# Altium schematic symbol library MCUs.SchLib: 48 symbols (part 3 of 3)
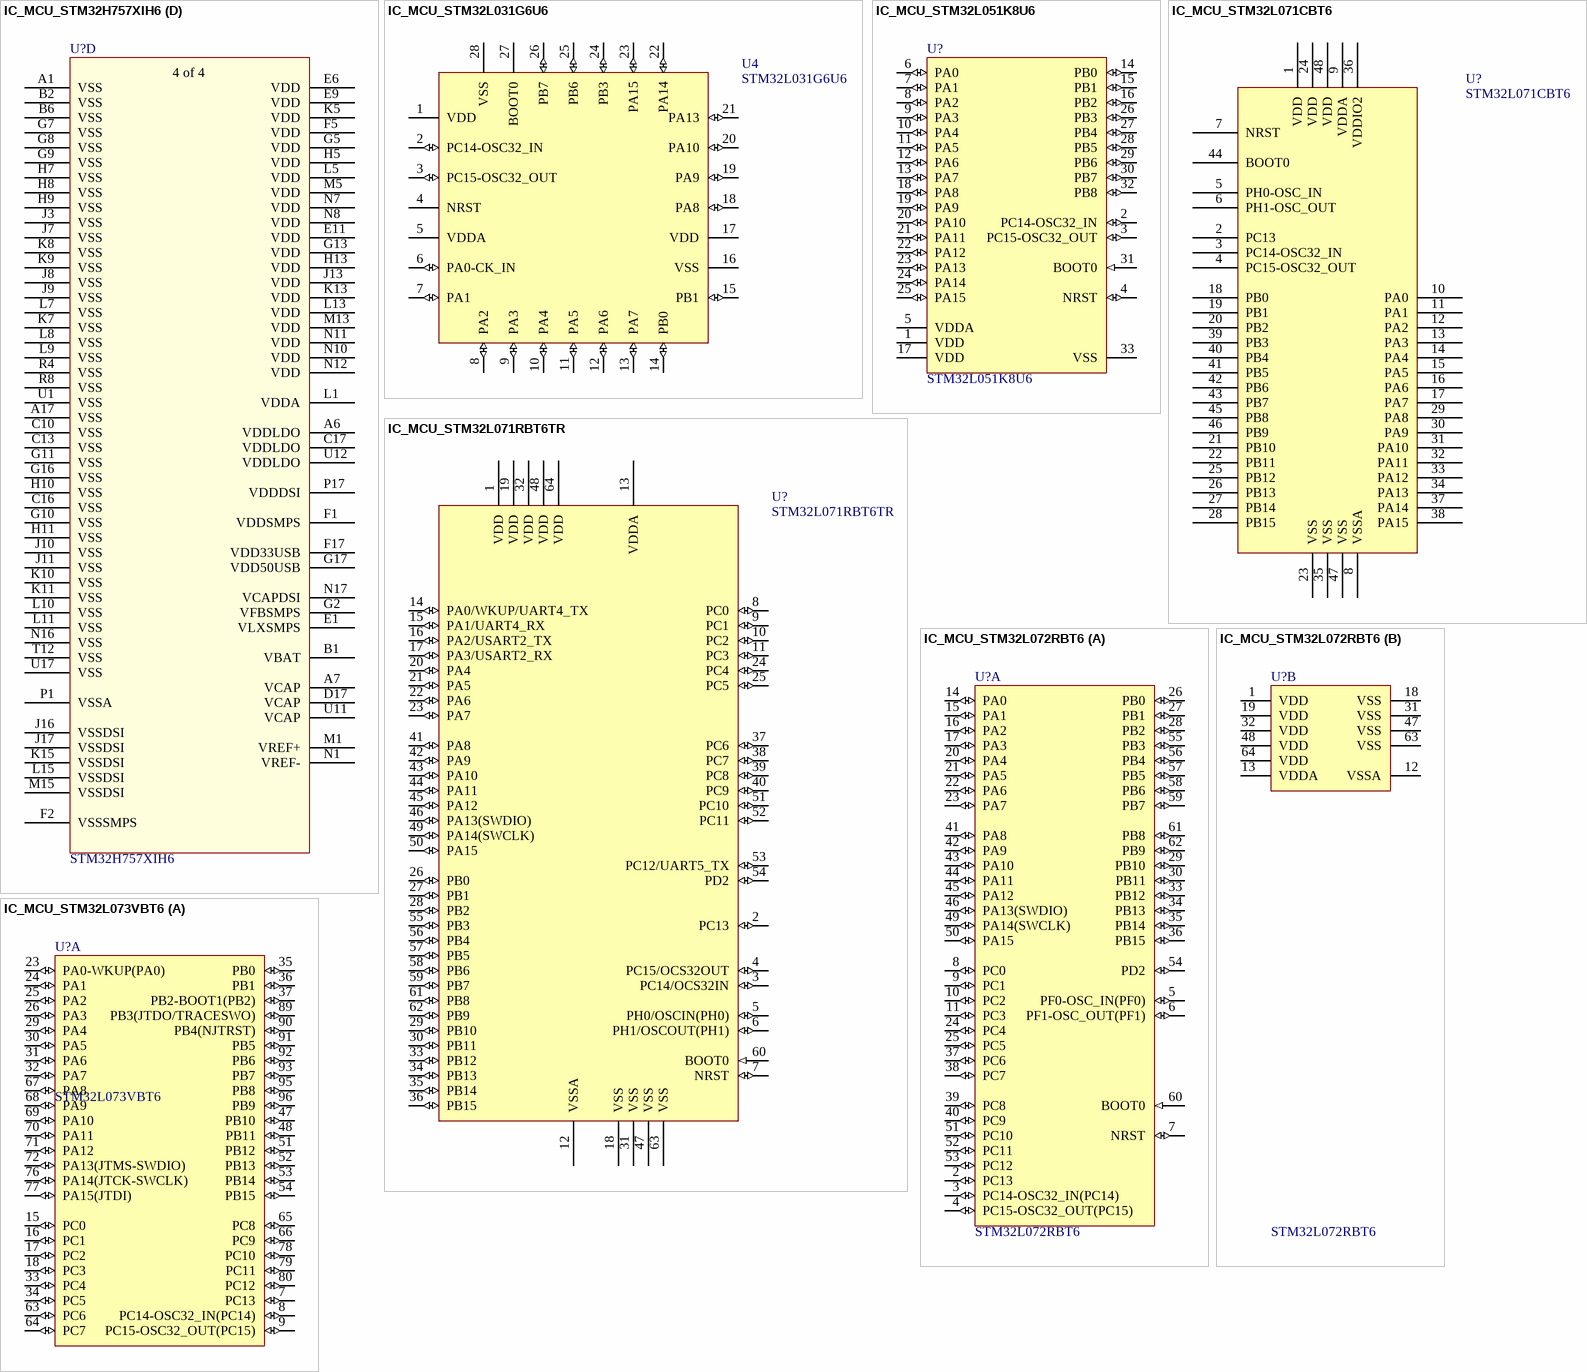
[diagram p13: symbols IC_MCU_STM32H757XIH6 to IC_MCU_STM32L073VBT6]

## IC_MCU_STM32L031G6U6
designator U4, comment STM32L031G6U6
IC MCU 32BIT 32KB FLASH 28QFPN; Manufacturer: STMicroelectronics; Supplier 1: Digi-Key; Manufacturer Part Number: STM32L031G6U6; ComponentLink1URL: http://www.st.com/content/ccc/resource/technical/document/datasheet/aa/5d/77/ad/1a/59/4a/b9/DM00140359.pdf/files/DM00140359.pdf/jcr:content/translations/en.DM00140359.pdf; ComponentLink1Description: Datasheet; Last modified by: J.Jaramillo; Last modified date: 20240310; Supplier Part Number 1: 497-17485-ND; Reel Stock: N/A; ComponentLink2Description: Digi-Key; ComponentLink2URL: https://www.digikey.com/en/products/detail/stmicroelectronics/STM32L031G6U6/6166976?s=N4IgTCBcDaICwE4DsBaAjEuAOArCgcgCIgC6AvkA
footprint UFQFN_28_4x4mm (28-UFQFN / 20190221 / H-D.Garcia)
pins: 1 VDD (power), 2 PC14-OSC32_IN (io), 3 PC15-OSC32_OUT (io), 4 NRST, 5 VDDA (power), 6 PA0-CK_IN (io), 7 PA1 (io), 8 PA2 (io), 9 PA3 (io), 10 PA4 (io), 11 PA5 (io), 12 PA6 (io), 13 PA7 (io), 14 PB0 (io), 15 PB1 (io), 16 VSS (power), 17 VDD (power), 18 PA8 (io), 19 PA9 (io), 20 PA10 (io), 21 PA13 (io), 22 PA14 (io), 23 PA15 (io), 24 PB3 (io), 25 PB6 (io), 26 PB7 (io), 27 BOOT0, 28 VSS (power)

## IC_MCU_STM32L051K8U6
designator U?, comment STM32L051K8U6
IC MCU 32BIT 64KB FLASH 32UFQFPN; Manufacturer: STMicroelectronics; Manufacturer Part Number: STM32L051K8U6; Supplier 1: Digi-Key; Supplier Part Number 1: 497-17490-ND; Reel Stock: N/A; Last modified by: J.Jaramillo; Last modified date: 20240310; ComponentLink1Description: Datasheet; ComponentLink1URL: http://www.st.com/content/ccc/resource/technical/document/datasheet/9a/75/bd/16/0f/fd/49/19/DM00108219.pdf/files/DM00108219.pdf/jcr:content/translations/en.DM00108219.pdf; ComponentLink2Description: Digi-Key; ComponentLink2URL: https://www.digikey.com/en/products/detail/stmicroelectronics/STM32L051K8U6/5051352?s=N4IgTCBcDaICwE4DsBaAjExAGFA5AIiALoC%2BQA
footprint UFQFN_32_5x5mm (32-UFQFN / 20190221 / H-D.Garcia)
pins: 1 VDD (power), 2 PC14-OSC32_IN (io), 3 PC15-OSC32_OUT (io), 4 NRST (io), 5 VDDA (power), 6 PA0 (io), 7 PA1 (io), 8 PA2 (io), 9 PA3 (io), 10 PA4 (io), 11 PA5 (io), 12 PA6 (io), 13 PA7 (io), 14 PB0 (io), 15 PB1 (io), 16 PB2 (io), 17 VDD (power), 18 PA8 (io), 19 PA9 (io), 20 PA10 (io), 21 PA11 (io), 22 PA12 (io), 23 PA13 (io), 24 PA14 (io), 25 PA15 (io), 26 PB3 (io), 27 PB4 (io), 28 PB5 (io), 29 PB6 (io), 30 PB7 (io), 31 BOOT0 (in), 32 PB8 (io), 33 VSS (power)

## IC_MCU_STM32L071CBT6
designator U?, comment STM32L071CBT6
IC MCU 32BIT 128KB FLASH 48LQFP; Manufacturer: STMicroelectronics; Manufacturer Part Number: STM32L071CBT6; Supplier 1: Digi-Key; Supplier Part Number 1: 497-17497-ND; Reel Stock: N/A; Last modified by: J.Jaramillo; Last modified date: 20240310; ComponentLink1Description: Digi-Key; ComponentLink1URL: https://www.digikey.com/en/products/detail/stmicroelectronics/STM32L071CBT6/6166982
footprint LQFP_48_7x7mm (48-LQFP / 20190221 / H-D.Garcia)
pins: 1 VDD, 2 PC13, 3 PC14-OSC32_IN, 4 PC15-OSC32_OUT, 5 PH0-OSC_IN, 6 PH1-OSC_OUT, 7 NRST, 8 VSSA, 9 VDDA, 10 PA0, 11 PA1, 12 PA2, 13 PA3, 14 PA4, 15 PA5, 16 PA6, 17 PA7, 18 PB0, 19 PB1, 20 PB2, 21 PB10, 22 PB11, 23 VSS, 24 VDD, 25 PB12, 26 PB13, 27 PB14, 28 PB15, 29 PA8, 30 PA9, 31 PA10, 32 PA11, 33 PA12, 34 PA13, 35 VSS, 36 VDDIO2, 37 PA14, 38 PA15, 39 PB3, 40 PB4, 41 PB5, 42 PB6, 43 PB7, 44 BOOT0, 45 PB8, 46 PB9, 47 VSS, 48 VDD

## IC_MCU_STM32L071RBT6TR
designator U?, comment STM32L071RBT6TR
IC MCU 32BIT 128KB FLASH 64LQFP; Manufacturer: STMicroelectronics; Manufacturer Part Number: STM32L071RBT6TR; Supplier 1: Digi-Key; Supplier Part Number 1: 497-18820-1-ND; Reel Stock: N/A; Last modified by: J.Jaramillo; Last modified date: 20240310; ComponentLink1Description: Digi-Key; ComponentLink1URL: https://www.digikey.com/en/products/detail/stmicroelectronics/STM32L071RBT6TR/6621800
footprint LQFP_64_10x10mm (64-LQFP / 20190221 / H-D.Garcia)
pins: 1 VDD, 2 PC13 (io), 3 PC14/OCS32IN (io), 4 PC15/OCS32OUT (io), 5 PH0/OSCIN(PH0) (io), 6 PH1/OSCOUT(PH1) (io), 7 NRST (io), 8 PC0 (io), 9 PC1 (io), 10 PC2 (io), 11 PC3 (io), 12 VSSA, 13 VDDA, 14 PA0/WKUP/UART4_TX (io), 15 PA1/UART4_RX (io), 16 PA2/USART2_TX (io), 17 PA3/USART2_RX (io), 18 VSS, 19 VDD, 20 PA4 (io), 21 PA5 (io), 22 PA6 (io), 23 PA7 (io), 24 PC4 (io), 25 PC5 (io), 26 PB0 (io), 27 PB1 (io) "PC1/EVENTOUT/ADC_IN11", 28 PB2 (io) "PC2/EVENTOUT/ADC_IN12", 29 PB10 (io), 30 PB11 (io), 31 VSS, 32 VDD, 33 PB12 (io), 34 PB13 (io), 35 PB14 (io), 36 PB15 (io), 37 PC6 (io), 38 PC7 (io), 39 PC8 (io), 40 PC9 (io), 41 PA8 (io), 42 PA9 (io), 43 PA10 (io), 44 PA11 (io), 45 PA12 (io), 46 PA13(SWDIO) (io), 47 VSS, 48 VDD, 49 PA14(SWCLK) (io), 50 PA15 (io), 51 PC10 (io), 52 PC11 (io), 53 PC12/UART5_TX (io), 54 PD2 (io), 55 PB3 (io), 56 PB4 (io), 57 PB5 (io), 58 PB6 (io), 59 PB7 (io), 60 BOOT0 (in), 61 PB8 (io), 62 PB9 (io), 63 VSS, 64 VDD

## IC_MCU_STM32L072RBT6
designator U?, comment STM32L072RBT6
IC MCU 32BIT 64KB FLASH 64LQFP; Manufacturer: STMicroelectronics; Reel Stock: N/A; Last modified by: J.Jaramillo; Last modified date: 20240310; ComponentLink1Description: Digi-key; ComponentLink1URL: https://www.digikey.com/products/en?keywords=497-17504-ND; Supplier 1: Digi-Key; Manufacturer Part Number: STM32L072RBT6; Supplier Part Number 1: 497-17504-ND
footprint LQFP_64_10x10mm (64-LQFP / 20190221 / H-D.Garcia)
part A pins: 2 PC13 (io), 3 PC14-OSC32_IN(PC14) (io), 4 PC15-OSC32_OUT(PC15) (io), 5 PF0-OSC_IN(PF0) (io), 6 PF1-OSC_OUT(PF1) (io), 7 NRST (io) "Device reset input / internal reset output (active low)", 8 PC0 (io) "PC0/EVENTOUT/ADC_IN10", 9 PC1 (io) "PC1/EVENTOUT/ADC_IN11", 10 PC2 (io) "PC2/EVENTOUT/ADC_IN12", 11 PC3 (io) "PC3/EVENTOUT/ADC_IN13", 14 PA0 (io) "PA0/USART2_CTS/ADC_IN0,RTC_TAMP2,WKUP1", 15 PA1 (io) "PA1/USART2_RTS,EVENTOUT/ADC_IN1", 16 PA2 (io) "PA2/USART2_TX,TIM15_CH1/ADC_IN2", 17 PA3 (io) "PA3/USART2_RX,TIM15_CH2/ADC_IN3", 20 PA4 (io) "PA4/SPI1_NSS,USART2_CK,TIM14_CH1/ADC_IN4", 21 PA5 (io) "PA5/SPI1_SCK/ADC_IN5", 22 PA6 (io) "PA6/SPI1_MISO,TIM3_CH1,TIM1_BKIN,TIM16_CH1,EVENTOUT/ADC_IN6", 23 PA7 (io) "PA7/SPI1_MOSI,TIM3_CH2,TIM14_CH1,TIM1_CH1N,TIM17_CH1,EVENTOUT/ADC_IN7", 24 PC4 (io) "PC4/EVENTOUT/ADC_IN14", 25 PC5 (io) "PC5/ADC_IN15", 26 PB0 (io) "PB0/TIM3_CH3,TIM1_CH2N,EVENTOUT/ADC_IN8", 27 PB1 (io) "PB1/TIM3_CH4,TIM14_CH1,TIM1_CH3N/ADC_IN9", 28 PB2 (io), 29 PB10 (io) "PB10/I2C2_SCL", 30 PB11 (io) "PB11/I2C2_SDA,EVENTOUT", 33 PB12 (io) "PB12/SPI2_NSS,TIM1_BKIN,EVENTOUT", 34 PB13 (io) "PB13/SPI2_SCK,TIM1_CH1N", 35 PB14 (io) "PB14/SPI2_MISO,TIM1_CH2N,TIM15_CH1", 36 PB15 (io) "PB15/SPI2_MOSI,TIM1_CH3N,TIM15_CH1N,TIM15_CH2/RTC_REFIN", 37 PC6 (io) "PC6/TIM3_CH1", 38 PC7 (io) "PC7/TIM3_CH2", 39 PC8 (io) "PC8/TIM3_CH3", 40 PC9 (io) "PC9/TIM3_CH4", 41 PA8 (io) "PA8/USART1_CK,TIM1_CH1,EVENTOUT,MCO", 42 PA9 (io) "PA9/USART1_TX,TIM1_CH2,TIM15_BKIN", 43 PA10 (io) "PA10/USART1_RX,TIM1_CH3,TIM17_BKIN", 44 PA11 (io) "PA11/USART1_CTS,TIM1_CH4,EVENTOUT", 45 PA12 (io) "PA12/USART1_RTS,TIM1_ETR,EVENTOUT", 46 PA13(SWDIO) (io) "PA13(SWDIO)/IR_OUT,SWDIO", 49 PA14(SWCLK) (io) "PA14(SWCLK)/USART2_TX,SWCLK", 50 PA15 (io) "PA15/SPI1_NSS,USART2_RX,EVENTOUT", 51 PC10 (io), 52 PC11 (io), 53 PC12 (io), 54 PD2 (io) "PD2/TIM3_ETR", 55 PB3 (io) "PB3/SPI1_SCK,EVENTOUT", 56 PB4 (io) "PB4/SPI1_MISO,TIM3_CH1,EVENTOUT", 57 PB5 (io) "PB5/SPI1_MOSI,I2C1_SMBA,TIM16_BKIN,TIM3_CH2", 58 PB6 (io) "PB6/I2C1_SCL,USART1_TX,TIM16_CH1N", 59 PB7 (io) "PB7/I2C1_SDA,USART1_RX,TIM17_CH1N", 60 BOOT0 (in) "Boot memory selection", 61 PB8 (io) "PB8/I2C1_SCL,TIM16_CH1", 62 PB9 (io) "PB9/I2C1_SDA,IR_OUT,TIM17_CH1,EVENTOUT"
part B pins: 1 VDD (power), 12 VSSA (power), 13 VDDA (power), 18 VSS (power), 19 VDD (power), 31 VSS (power), 32 VDD (power), 47 VSS (power), 48 VDD (power), 63 VSS (power), 64 VDD (power)

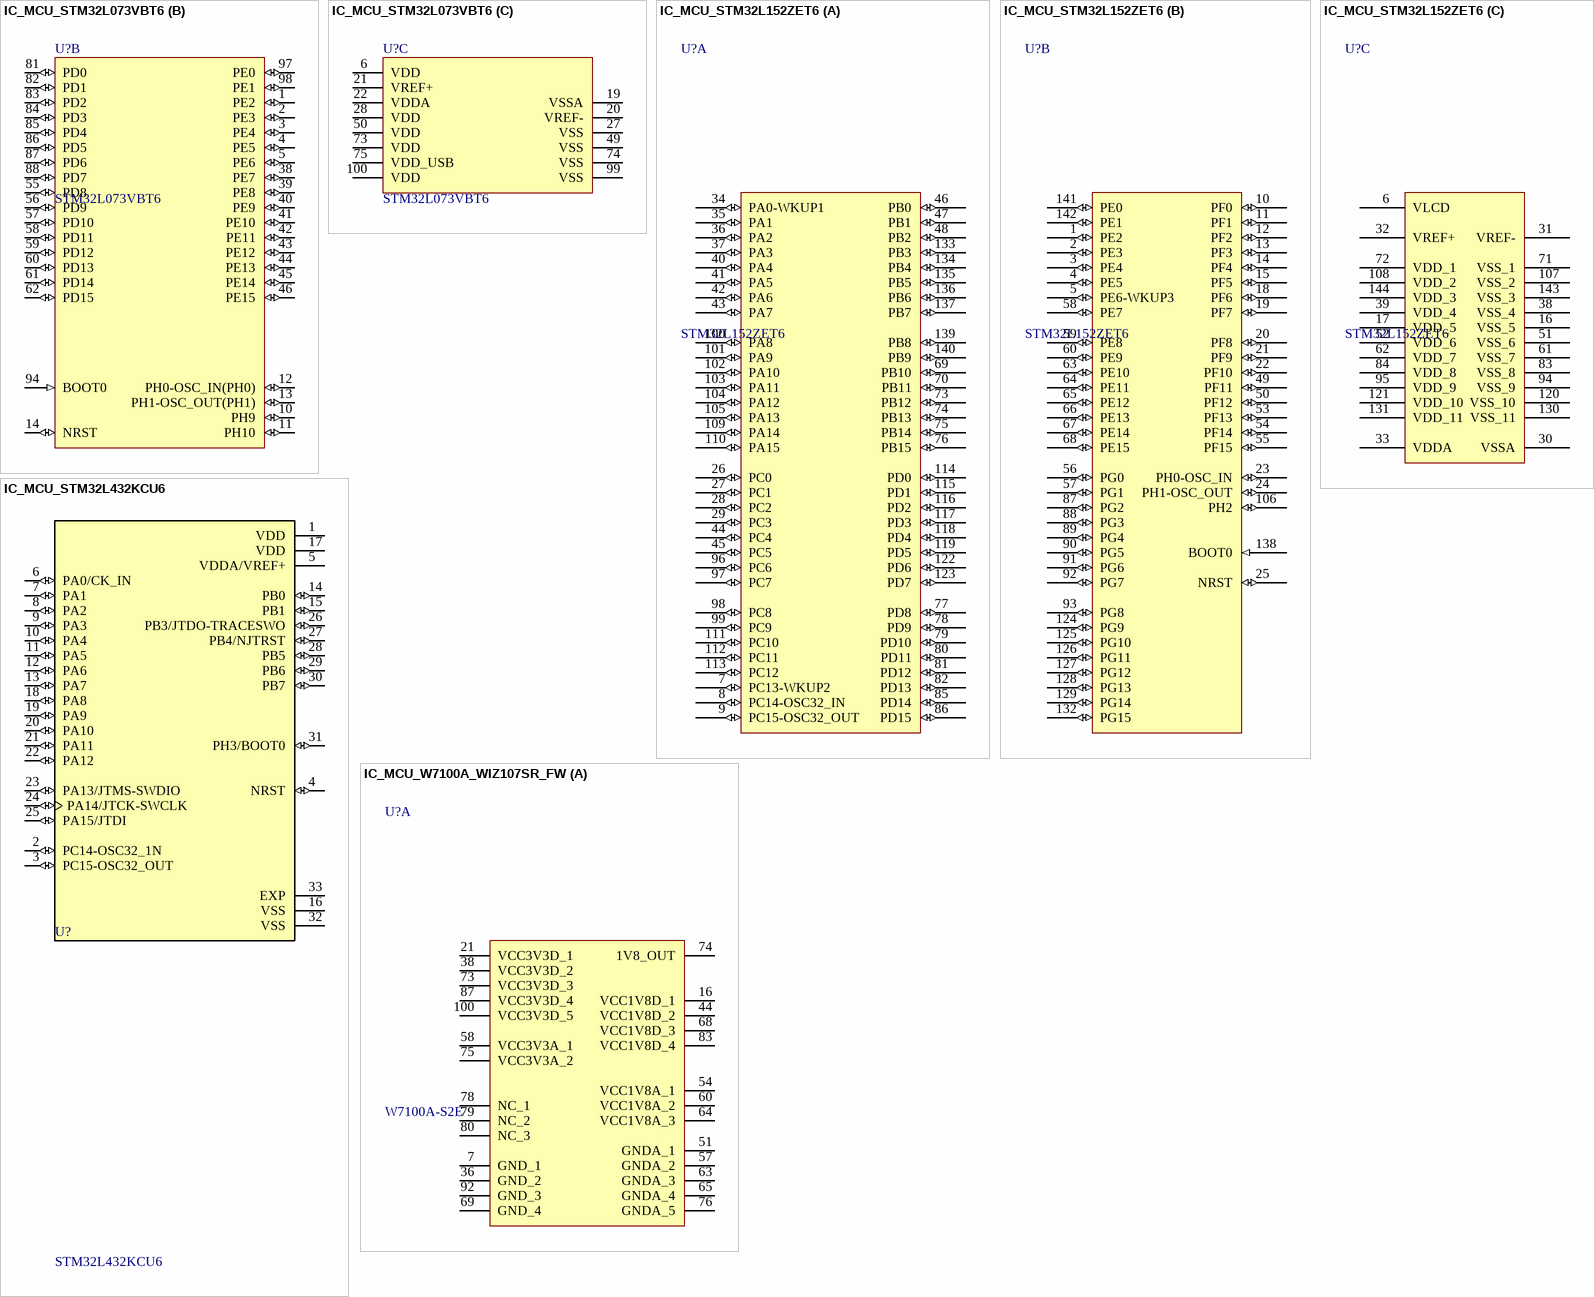
[diagram p10: symbols IC_MCU_STM32L073VBT6 to IC_MCU_W7100A_WIZ107SR_FW]

## IC_MCU_STM32L073VBT6
designator U?, comment STM32L073VBT6
IC MCU 32BIT 128KB FLASH 100LQFP; Manufacturer: STMicroelectronics; Reel Stock: N/A; Last modified by: J.Jaramillo; Last modified date: 20240310; ComponentLink1Description: Datasheet; ComponentLink1URL: https://www.digikey.tw/products/en?keywords=497-17507-ND; Supplier 1: Digi-Key; Manufacturer Part Number: STM32L073VBT6; Supplier Part Number 1: 497-17507-ND
footprint LQFP_100_14x14mm (100-LQFP / 20190221 / H-D.Garcia)
part A pins: 7 PC13 (io) "PC13/EVENTOUT/TAMP_1", 8 PC14-OSC32_IN(PC14) (io) "PC14-OSC32_IN(PC14)/EVENTOUT/OSC32_IN", 9 PC15-OSC32_OUT(PC15) (io) "PC15-OSC32_OUT(PC15)/EVENTOUT/OSC32_OUT", 15 PC0 (io) "PC0/OTG_HS_ULPI_STP,FMC_SDNWE,EVENTOUT/ADC123_IN10", 16 PC1 (io) "PC1/ETH_MDC,EVENTOUT/ADC123_IN11", 17 PC2 (io) "PC2/SPI2_MISO,I2S2EXT_SD,OTG_HS_ULPI_DIR,ETH_MII_TXD2,FMC_SDNE0,EVENTOUT/ADC123_IN12", 18 PC3 (io) "PC3/SPI2_MOSI/I2S2_SD,OTG_HS_ULPI_NXT,ETH_MII_TX_CLK,FMC_SDCKE0,EVENTOUT/ADC123_IN13", 23 PA0-WKUP(PA0) (io) "PA0-WKUP(PA0)/TIM2_CH1/TIM2_ETR,TIM5_CH1,TIM8_ETR,USART2_CTS,UART4_TX,ETH_MII_CRS,EVENTOUT/ADC123_IN0/WKUP", 24 PA1 (io) "PA1/TIM2_CH2,TIM5_CH2,USART2_RTS,UART4_RX,ETH_MII_RX_CLK/ETH_RMII_REF_CLK,EVENTOUT/ADC123_IN1", 25 PA2 (io) "PA2/TIM2_CH3,TIM5_CH3,TIM9_CH1,USART2_TX,ETH_MDIO,EVENTOUT/ADC123_IN2", 26 PA3 (io) "PA3/TIM2_CH4,TIM5_CH4,TIM9_CH2,USART2_RX,OTG_HS_ULPI_D0,ETH_MII_COL,LCD_B5,EVENTOUT/ADC123_IN3", 29 PA4 (io) "PA4/SPI1_NSS,SPI3_NSS/I2S3_WS,USART2_CK,OTG_HS_SOF,DCMI_HSYNC,LCD_VSYNC,EVENTOUT/ADC12_IN4/DAC_OUT1", 30 PA5 (io) "PA5/TIM2_CH1/TIM2_ETR,TIM8_CH1N,SPI1_SCK,OTG_HS_ULPI_CK,EVENTOUT/ADC12_IN5/DAC_OUT2", 31 PA6 (io) "PA6/TIM1_BKIN,TIM3_CH1,TIM8_BKIN,SPI1_MISO,TIM13_CH1,DCMI_PIXCLK,LCD_G2,EVENTOUT/ADC12_IN6", 32 PA7 (io) "PA7/TIM1_CH1N,TIM3_CH2,TIM8_CH1N,SPI1_MOSI,TIM14_CH1,ETH_MII_RX_DV/ETH_RMII_CRS_DV,EVENTOUT/ADC12_IN7", 33 PC4 (io) "PC4/ETH_MII_RXD0/ETH_RMII_RXD0,EVENTOUT/ADC12_IN14", 34 PC5 (io) "PC5/ETH_MII_RXD1/ETH_RMII_RXD1,EVENTOUT/ADC12_IN15", 35 PB0 (io) "PB0/TIM1_CH2N,TIM3_CH3,TIM8_CH2N,LCD_R3,OTG_HS_ULPI_D1,ETH_MII_RXD2,EVENTOUT/ADC12_IN8", 36 PB1 (io) "PB1/TIM1_CH3N,TIM3_CH4,TIM8_CH3N,LCD_R6,OTG_HS_ULPI_D2,ETH_MII_RXD3,EVENTOUT/ADC12_IN9", 37 PB2-BOOT1(PB2) (io) "PB2-BOOT1(PB2)/EVENTOUT", 47 PB10 (io) "PB10/TIM2_CH3,I2C2_SCL,SPI2_SCK/I2S2_CK,USART3_TX,OTG_HS_ULPI_D3,ETH_MII_RX_ER,LCD_G4,EVENTOUT", 48 PB11 (io) "PB11/TIM2_CH4,I2C2_SDA,USART3_RX,OTG_HS_ULPI_D4,ETH_MII_TX_EN/ETH_RMII_TX_EN,LCD_G5,EVENTOUT", 51 PB12 (io) "PB12/TIM1_BKIN,I2C2_SMBA,SPI2_NSS/I2S2_WS,USART3_CK,CAN2_RX,OTG_HS_ULPI_D5,ETH_MII_TXD0/ETH_RMII_TXD0,OTG_HS_ID,EVENTOUT", 52 PB13 (io) "PB13/TIM1_CH1N,SPI2_SCK/I2S2_CK,USART3_CTS,CAN2_TX,OTG_HS_ULPI_D6,ETH_MII_TXD1/ETH_RMII_TXD1,EVENTOUTOTG_HS_VBUS", 53 PB14 (io) "PB14/TIM1_CH2N,TIM8_CH2N,SPI2_MISO,I2S2EXT_SD,USART3_RTS,TIM12_CH1,OTG_HS_DM,EVENTOUT", 54 PB15 (io) "PB15/RTC_REFIN,TIM1_CH3N,TIM8_CH3N,SPI2_MOSI/I2S2_SD,TIM12_CH2,OTG_HS_DP,EVENTOUT", 63 PC6 (io) "PC6/TIM3_CH1,TIM8_CH1,I2S2_MCK,USART6_TX,SDIO_D6,DCMI_D0,LCD_HSYNC,EVENTOUT", 64 PC7 (io) "PC7/TIM3_CH2,TIM8_CH2,I2S3_MCK,USART6_RX,SDIO_D7,DCMI_D1,LCD_G6,EVENTOUT", 65 PC8 (io) "PC8/TIM3_CH3,TIM8_CH3,USART6_CK,SDIO_D0,DCMI_D2,EVENTOUT", 66 PC9 (io) "PC9/MCO2,TIM3_CH4,TIM8_CH4,I2C3_SDA,I2S_CKIN,SDIO_D1,DCMI_D3,EVENTOUT", 67 PA8 (io) "PA8/MCO1,TIM1_CH1,I2C3_SCL,USART1_CK,OTG_FS_SOF,LCD_R6,EVENTOUT", 68 PA9 (io) "PA9/TIM1_CH2,I2C3_SMBA,USART1_TX,DCMI_D0,EVENTOUT/OTG_FS_VBUS", 69 PA10 (io) "PA10/TIM1_CH3,USART1_RX,OTG_FS_ID,DCMI_D1,EVENTOUT", 70 PA11 (io) "PA11/TIM1_CH4,USART1_CTS,CAN1_RX,LCD_R4,OTG_FS_DM,EVENTOUT", 71 PA12 (io) "PA12/TIM1_ETR,USART1_RTS,CAN1_TX,LCD_R5,OTG_FS_DP,EVENTOUT", 72 PA13(JTMS-SWDIO) (io) "PA13(JTMS-SWDIO)/JTMS-SWDIO,EVENTOUT", 76 PA14(JTCK-SWCLK) (io) "PA14(JTCK-SWCLK)/JTCK-SWCLK/EVENTOUT", 77 PA15(JTDI) (io) "PA15(JTDI)/JTDI,TIM2_CH1/TIM2_ETR,SPI1_NSS,SPI3_NSS/I2S3_WS,EVENTOUT", 78 PC10 (io) "PC10/SPI3_SCK/I2S3_CK,USART3_TX,UART4_TX,SDIO_D2,DCMI_D8,LCD_R2,EVENTOUT", 79 PC11 (io) "PC11/I2S3EXT_SD,SPI3_MISO,USART3_RX,UART4_RX,SDIO_D3,DCMI_D4,EVENTOUT", 80 PC12 (io) "PC12/SPI3_MOSI/I2S3_SD,USART3_CK,UART5_TX,SDIO_CK,DCMI_D9,EVENTOUT", 89 PB3(JTDO/TRACESWO) (io) "PB3(JTDO/TRACESWO)/JTDO/TRACESWO,TIM2_CH2,SPI1_SCK,SPI3_SCK/I2S3_CK,EVENTOUT", 90 PB4(NJTRST) (io) "PB4(NJTRST)/NJTRST,TIM3_CH1,SPI1_MISO,SPI3_MISO,I2S3EXT_SD,EVENTOUT", 91 PB5 (io) "PB5/TIM3_CH2,I2C1_SMBA,SPI1_MOSI,SPI3_MOSI/I2S3_SD,CAN2_RX,OTG_HS_ULPI_D7,ETH_PPS_OUT,FMC_SDCKE1,DCMI_D10,EVENTOUT", 92 PB6 (io) "PB6/TIM4_CH1,I2C1_SCL,USART1_TX,CAN2_TX,FMC_SDNE1,DCMI_D5,EVENTOUT", 93 PB7 (io) "PB7/TIM4_CH2,I2C1_SDA,USART1_RX,FMC_NL,DCMI_VSYNC,EVENTOUT", 95 PB8 (io) "PB8/TIM4_CH3,TIM10_CH1,I2C1_SCL,CAN1_RX,ETH_MII_TXD3,SDIO_D4,DCMI_D6,LCD_B6,EVENTOUT", 96 PB9 (io) "PB9/TIM4_CH4,TIM11_CH1,I2C1_SDA,SPI2_NSS/I2S2_WS,CAN1_TX,SDIO_D5,DCMI_D7,LCD_B7,EVENTOUT"
part B pins: 1 PE2 (io) "PE2/TRACECLK,SPI4_SCK,SAI1_MCLK_A,ETH_MII_TXD3,FMC_A23,EVENTOUT", 2 PE3 (io) "PE3/TRACED0,SAI1_SD_B,FMC_A19,EVENTOUT", 3 PE4 (io) "PE4/TRACED1,SPI4_NSS,SAI1_FS_A,FMC_A20,DCMI_D4,LCD_B0,EVENTOUT", 4 PE5 (io) "PE5/TRACED2,TIM9_CH1,SPI4_MISO,SAI1_SCK_A,FMC_A21,DCMI_D6,LCD_G0,EVENTOUT", 5 PE6 (io) "PE6/TRACED3,TIM9_CH2,SPI4_MOSI,SAI1_SD_A,FMC_A22,DCMI_D7,LCD_G1,EVENTOUT", 10 PH9 (io) "VSS", 11 PH10 (io) "VDD", 12 PH0-OSC_IN(PH0) (io) "PH0-OSC_IN(PH0)/EVENTOUT/OSC_IN", 13 PH1-OSC_OUT(PH1) (io) "PH1-OSC_OUT(PH1)/EVENTOUT/OSC_OUT", 14 NRST (io), 38 PE7 (io) "PE7/TIM1_ETR,UART7_RX,FMC_D4,EVENTOUT", 39 PE8 (io) "PE8/TIM1_CH1N,UART7_TX,FMC_D5,EVENTOUT", 40 PE9 (io) "PE9/TIM1_CH1,FMC_D6,EVENTOUT", 41 PE10 (io) "PE10/TIM1_CH2N,FMC_D7,EVENTOUT", 42 PE11 (io) "PE11/TIM1_CH2,SPI4_NSS,FMC_D8,LCD_G3,EVENTOUT", 43 PE12 (io) "PE12/TIM1_CH3N,SPI4_SCK,FMC_D9,LCD_B4,EVENTOUT", 44 PE13 (io) "PE13/TIM1_CH3,SPI4_MISO,FMC_D10,LCD_DE,EVENTOUT", 45 PE14 (io) "PE14/TIM1_CH4,SPI4_MOSI,FMC_D11,LCD_CLK,EVENTOUT", 46 PE15 (io) "PE15/TIM1_BKIN,FMC_D12,LCD_R7,EVENTOUT", 55 PD8 (io) "PD8/USART3_TX,FMC_D13,EVENTOUT", 56 PD9 (io) "PD9/USART3_RX,FMC_D14,EVENTOUT", 57 PD10 (io) "PD10/USART3_CK,FMC_D15,LCD_B3,EVENTOUT", 58 PD11 (io) "PD11/USART3_CTS,FMC_A16,EVENTOUT", 59 PD12 (io) "PD12/TIM4_CH1,USART3_RTS,FMC_A17,EVENTOUT", 60 PD13 (io) "PD13/TIM4_CH2,FMC_A18,EVENTOUT", 61 PD14 (io) "PD14/TIM4_CH3,FMC_D0,EVENTOUT", 62 PD15 (io) "PD15/TIM4_CH4,FMC_D1,EVENTOUT", 81 PD0 (io) "PD0/CAN1_RX,FMC_D2,EVENTOUT", 82 PD1 (io) "PD1/CAN1_TX,FMC_D3,EVENTOUT", 83 PD2 (io) "PD2/TIM3_ETR,UART5_RX,SDIO_CMD,DCMI_D11,EVENTOUT", 84 PD3 (io) "PD3/SPI2_SCK/I2S2_CK,USART2_CTS,FMC_CLK,DCMI_D5,LCD_G7,EVENTOUT", 85 PD4 (io) "PD4/USART2_RTS,FMC_NOE,EVENTOUT", 86 PD5 (io) "PD5/USART2_TX,FMC_NWE,EVENTOUT", 87 PD6 (io) "PD6/SPI3_MOSI/I2S3_SD,SAI1_SD_A,USART2_RX,FMC_NWAIT,DCMI_D10,LCD_B2,EVENTOUT", 88 PD7 (io) "PD7/USART2_CK,FMC_NE1/FMC_NCE2,EVENTOUT", 94 BOOT0 (in) "BOOT0/VPP", 97 PE0 (io) "PE0/TIM4_ETR,UART8_RX,FMC_NBL0,DCMI_D2,EVENTOUT", 98 PE1 (io) "PE1/UART8_TX,FMC_NBL1,DCMI_D3,EVENTOUT"
part C pins: 6 VDD (power) "VBAT", 19 VSSA (power) "VDD", 20 VREF- (power) "VSSA", 21 VREF+ (power), 22 VDDA (power), 27 VSS (power), 28 VDD (power), 49 VSS (power) "VCAP_1", 50 VDD (power), 73 VDD (power) "VCAP_2", 74 VSS (power), 75 VDD_USB (power) "VDD", 99 VSS (power), 100 VDD (power)

## IC_MCU_STM32L152ZET6
designator U?, comment STM32L152ZET6
IC MCU 32BIT 512KB FLASH 144LQFP; Manufacturer: STMicroelectronics; Manufacturer Part Number: STM32L152ZET6; Supplier 1: Digi-Key; Supplier Part Number 1: 497-15831-ND; Reel Stock: N/A; Last modified by: J.Jaramillo; Last modified date: 20240310; ComponentLink1Description: New link
footprint LQFP_144_20X20MM_M (/20210906/V-A.Patino)
part A pins: 7 PC13-WKUP2 (io) "PC13-WKUP2/PC13/WKUP2/RTC_TAMP1/RTC_TS/RTC_OUT", 8 PC14-OSC32_IN (io) "PC14-OSC32_IN/PC14/OSC32_IN", 9 PC15-OSC32_OUT (io) "PC15-OSC32_OUT/PC15/OSC32_OUT", 26 PC0 (io) "PC0/LCD_SEG18/ADC_IN10/COMP1_INP", 27 PC1 (io) "PC1/LCD_SEG19/ADC_IN11/COMP1_INP", 28 PC2 (io) "PC2/LCD_SEG20/ADC_IN12/COMP1_INP", 29 PC3 (io) "PC3/LCD_SEG21/ADC_IN13/COMP1_INP", 34 PA0-WKUP1 (io) "PA0-WKUP1/PA0/WKUP1/RTC_TAMP2/TIM2_CH1_ETR/TIM5_CH1/USART2_CTS/ADC_IN0/COMP1_INP", 35 PA1 (io) "PA1/TIM2_CH2/TIM5_CH2/USART2_RTS/LCD_SEG0/ADC_IN1/COMP1_INP/OPAMP1_VINP", 36 PA2 (io) "PA2/TIM2_CH3/TIM5_CH3/TIM9_CH1/USART2_TX/LCD_SEG1/ADC_IN2/COMP1_INP/OPAMP1_VINM", 37 PA3 (io) "PA3/TIM2_CH4/TIM5_CH4/TIM9_CH2/USART2_RX/LCD_SEG2/ADC_IN3/COMP1_INP/OPAMP1_VOUT", 40 PA4 (io) "PA4/SPI1_NSS/SPI3_NSS/I2S3_WS/USART2_CK/ADC_IN4/DAC_OUT1/COMP1_INP", 41 PA5 (io) "PA5/TIM2_CH1_ETR/SPI1_SCK/ADC_IN5/DAC_OUT2/COMP1_INP", 42 PA6 (io) "PA6/TIM3_CH1/TIM10_CH1/SPI1_MISO/LCD_SEG3/ADC_IN6/COMP1_INP/OPAMP2_VINP", 43 PA7 (io) "PA7/TIM3_CH2/TIM11_CH1/SPI1_MOSI/LCD_SEG4/ADC_IN7/COMP1_INP/OPAMP2_VINM", 44 PC4 (io) "PC4/LCD_SEG22/ADC_IN14/COMP1_INP", 45 PC5 (io) "PC5/LCD_SEG23/ADC_IN15/COMP1_INP", 46 PB0 (io) "PB0/TIM3_CH3/LCD_SEG5/ADC_IN8/COMP1_INP/VREF_OUT/OPAMP2_VOUT", 47 PB1 (io) "PB1/TIM3_CH4/LCD_SEG6/ADC_IN9/COMP1_INP/VREF_OUT", 48 PB2 (io) "PB2/BOOT1/ADC_IN0b/COMP1_INP", 69 PB10 (io) "PB10/TIM2_CH3/I2C2_SCL/USART3_TX/LCD_SEG10", 70 PB11 (io) "PB11/TIM2_CH4/I2C2_SDA/USART3_RX/LCD_SEG11", 73 PB12 (io) "PB12/TIM10_CH1/I2C2_SMBA/SPI2_NSS/I2S2_WS/USART3_CK/LCD_SEG12/ADC_IN18/COMP1_INP", 74 PB13 (io) "PB13/TIM9_CH1/SPI2_SCK/I2S2_CK/USART3_CTS/LCD_SEG13/ADC_IN19/COMP1_INP", 75 PB14 (io) "PB14/TIM9_CH2/SPI2_MISO/USART3_RTS/LCD_SEG14/ADC_IN20/COMP1_INP", 76 PB15 (io) "PB15/TIM11_CH1/SPI2_MOSI/I2S2_SD/LCD_SEG15/ADC_IN21/COMP1_INP/RTC_REFIN", 77 PD8 (io) "PD8/USART3_TX/LCD_SEG28", 78 PD9 (io) "PD9/USART3_RX/LCD_SEG29", 79 PD10 (io) "PD10/USART3_CK/LCD_SEG30", 80 PD11 (io) "PD11/USART3_CTS/LCD_SEG31", 81 PD12 (io) "PD12/TIM4_CH1/USART3_RTS/LCD_SEG32", 82 PD13 (io) "PD13/TIM4_CH2/LCD_SEG33", 85 PD14 (io) "PD14/TIM4_CH3/LCD_SEG34", 86 PD15 (io) "PD15/TIM4_CH4/LCD_SEG35", 96 PC6 (io) "PC6/TIM3_CH1/I2S2_MCK/LCD_SEG24", 97 PC7 (io) "PC7/TIM3_CH2/I2S3_MCK/LCD_SEG25", 98 PC8 (io) "PC8/TIM3_CH3/LCD_SEG26", 99 PC9 (io) "PC9/TIM3_CH4/LCD_SEG27", 100 PA8 (io) "PA8/USART1_CK/MCO/LCD_COM0", 101 PA9 (io) "PA9/USART1_TX/LCD_COM1", 102 PA10 (io) "PA10/USART1_RX/LCD_COM2", 103 PA11 (io) "PA11/USART1_CTS/USB_DM/SPI1_MISO", 104 PA12 (io) "PA12/USART1_RTS/USB_DP/SPI1_MOSI", 105 PA13 (io) "PA13/JTMS-SWDAT", 109 PA14 (io) "PA14/JTCK-SWCLK", 110 PA15 (io) "PA15/JTDI/TIM2_CH1_ETR/SPI1_NSS/SPI3_NSS/I2S3_WS/LCD_SEG17", 111 PC10 (io) "PC10/SPI3_SCK/I2S3_CK/USART3_TX/UART4_TX/LCD_SEG28/LCD_SEG40/LCD_COM4", 112 PC11 (io) "PC11/SPI3_MISO/USART3_RX/UART4_RX/LCD_SEG29/LCD_SEG41/LCD_COM5", 113 PC12 (io) "PC12/SPI3_MOSI/I2S3_SD/USART3_CK/UART5_TX/LCD_SEG30/LCD_SEG42/LCD_COM6", 114 PD0 (io) "PD0/TIM9_CH1/SPI2_NSS/I2S2_WS", 115 PD1 (io) "PD1/SPI2_SCK/I2S2_CK", 116 PD2 (io) "PD2/TIM3_ETR/UART5_RX/LCD_SEG31/LCD_SEG43/LCD_COM7", 117 PD3 (io) "PD3/SPI2_MISO/USART2_CTS", 118 PD4 (io) "PD4/SPI2_MOSI/I2S2_SD/USART2_RTS", 119 PD5 (io) "PD5/USART2_TX", 122 PD6 (io) "PD6/USART2_RX", 123 PD7 (io) "PD7/TIM9_CH2/USART2_CK", 133 PB3 (io) "PB3/JTDO/TIM2_CH2/SPI1_SCK/SPI3_SCK/I2S3_CK/LCD_SEG7/COMP2_INM", 134 PB4 (io) "PB4/NJTRST/TIM3_CH1/SPI1_MISO/SPI3_MISO/LCD_SEG8/COMP2_INP", 135 PB5 (io) "PB5/TIM3_CH2/I2C1_SMBA/SPI1_MOSI/SPI3_MOSI/I2S3_SD/LCD_SEG9/COMP2_INP", 136 PB6 (io) "PB6/TIM4_CH1/I2C1_SCL/USART1_TX/COMP2_INP", 137 PB7 (io) "PB7/TIM4_CH2/I2C1_SDA/USART1_RX/PVD_IN/COMP2_INP", 139 PB8 (io) "PB8/TIM4_CH3/TIM10_CH1/I2C1_SCL/LCD_SEG16", 140 PB9 (io) "PB9/TIM4_CH4/TIM11_CH1/I2C1_SDA/LCD_COM3"
part B pins: 1 PE2 (io) "PE2/TIM3_ETR/LCD_SEG38/TRACECLK", 2 PE3 (io) "PE3/TIM3_CH1/LCD_SEG39/TRACED0", 3 PE4 (io) "PE4/TIM3_CH2/TRACED1", 4 PE5 (io) "PE5/TIM9_CH1/TRACED2", 5 PE6-WKUP3 (io) "PE6-WKUP3/PE6/WKUP3/RTC_TAMP3/TIM9_CH2/TRACED3", 10 PF0 (io), 11 PF1 (io), 12 PF2 (io), 13 PF3 (io), 14 PF4 (io), 15 PF5 (io), 18 PF6 (io) "PF6/TIM5_CH1/TIM5_ETR/ADC_IN27", 19 PF7 (io) "PF7/TIM5_CH2/ADC_IN28/COMP1_INP", 20 PF8 (io) "PF8/TIM5_CH3/ADC_IN29/COMP1_INP", 21 PF9 (io) "PF9/TIM5_CH4/ADC_IN30/COMP1_INP", 22 PF10 (io) "PF10/ADC_IN30/COMP1_INP", 23 PH0-OSC_IN (io) "PH0-OSC_IN/PH0/OSC_IN", 24 PH1-OSC_OUT (io) "PH1-OSC_OUT/PH1/OSC_OUT", 25 NRST (io), 49 PF11 (io) "PF11/ADC_IN1b/COMP1_INP", 50 PF12 (io) "PF12/ADC_IN2b/COMP1_INP", 53 PF13 (io) "PF13/ADC_IN3b/COMP1_INP", 54 PF14 (io) "PF14/ADC_IN6b/COMP1_INP", 55 PF15 (io) "PF15/ADC_IN7b/COMP1_INP", 56 PG0 (io) "PG0/ADC_IN8b/COMP1_INP", 57 PG1 (io) "PG1/ADC_IN9b/COMP1_INP", 58 PE7 (io) "PE7/ADC_IN22/COMP1_INP", 59 PE8 (io) "PE8/ADC_IN23/COMP1_INP", 60 PE9 (io) "PE9/TIM2_CH1_ETR/ADC_IN24/COMP1_INP", 63 PE10 (io) "PE10/TIM2_CH2/ADC_IN25/COMP1_INP", 64 PE11 (io) "PE11/TIM2_CH3", 65 PE12 (io) "PE12/TIM2_CH4/SPI1_NSS", 66 PE13 (io) "PE13/SPI1_SCK", 67 PE14 (io) "PE14/SPI1_MISO", 68 PE15 (io) "PE15/SPI1_MOSI", 87 PG2 (io) "PG2/ADC_IN10b/COMP1_INP", 88 PG3 (io) "PG3/ADC_IN11b/COMP1_INP", 89 PG4 (io) "PG4/ADC_IN12b/COMP1_INP", 90 PG5 (io), 91 PG6 (io), 92 PG7 (io), 93 PG8 (io), 106 PH2 (io), 124 PG9 (io), 125 PG10 (io), 126 PG11 (io), 127 PG12 (io), 128 PG13 (io), 129 PG14 (io), 132 PG15 (io), 138 BOOT0 (in), 141 PE0 (io) "PE0/TIM4_ETR/TIM10_CH1/LCD_SEG36", 142 PE1 (io) "PE1/TIM11_CH1/LCD_SEG37"
part C pins: 6 VLCD (power), 16 VSS_5 (power), 17 VDD_5 (power), 30 VSSA (power), 31 VREF- (power), 32 VREF+ (power), 33 VDDA (power), 38 VSS_4 (power), 39 VDD_4 (power), 51 VSS_6 (power), 52 VDD_6 (power), 61 VSS_7 (power), 62 VDD_7 (power), 71 VSS_1 (power), 72 VDD_1 (power), 83 VSS_8 (power), 84 VDD_8 (power), 94 VSS_9 (power), 95 VDD_9 (power), 107 VSS_2 (power), 108 VDD_2 (power), 120 VSS_10 (power), 121 VDD_10 (power), 130 VSS_11 (power), 131 VDD_11 (power), 143 VSS_3 (power), 144 VDD_3 (power)

## IC_MCU_STM32L432KCU6
designator U?, comment STM32L432KCU6
IC MCU 32BIT 256KB FLSH 32UFQFPN; Manufacturer: STMicroelectronics; Manufacturer Part Number: STM32L432KCU6; Supplier 1: Digi-Key; Supplier Part Number 1: C1337280; Reel Stock: N/A; Last modified by: J.Jaramillo; Last modified date: 030726; ComponentLink1Description: Datasheet; ComponentLink1URL: https://www.lcsc.com/datasheet/C1337280.pdf?spm=wm.sxq.inf.ggs___wm.fly.bg.0.xh&lcsc_vid=QlVWAwYAFgVeVVReQwReXlYDEQcLUgVSRQQLU1NREwMxVlNeRFBcUVRSQ1ZWXzsOAxUeFF5JWBYZEEoKFBINSQcJGk4%3D; ComponentLink2Description: LCSC; ComponentLink2URL: https://www.lcsc.com/product-detail/C1337280.html?s_z=n_q_STM32L432KCU6&spm=wm.fly.bg.0.xh&lcsc_vid=QlVWAwYAFgVeVVReQwReXlYDEQcLUgVSRQQLU1NREwMxVlNeRFBcUVRSQ1ZWXzsOAxUeFF5JWBYZEEoKFBINSQcJGk4%3D
footprint UFQFPN_32_5x5mm (030726 / J.Jaramillo)
pins: 1 VDD (power), 2 PC14-OSC32_1N (io), 3 PC15-OSC32_OUT (io), 4 NRST (io), 5 VDDA/VREF+ (power), 6 PA0/CK_IN (io), 7 PA1 (io), 8 PA2 (io), 9 PA3 (io), 10 PA4 (io), 11 PA5 (io), 12 PA6 (io), 13 PA7 (io), 14 PB0 (io), 15 PB1 (io), 16 VSS (power), 17 VDD (power), 18 PA8 (io), 19 PA9 (io), 20 PA10 (io), 21 PA11 (io), 22 PA12 (io), 23 PA13/JTMS-SWDIO (io), 24 PA14/JTCK-SWCLK (io), 25 PA15/JTDI (io), 26 PB3/JTDO-TRACESWO (io), 27 PB4/NJTRST (io), 28 PB5 (io), 29 PB6 (io), 30 PB7 (io), 31 PH3/BOOT0 (io), 32 VSS (power), 33 EXP (power)

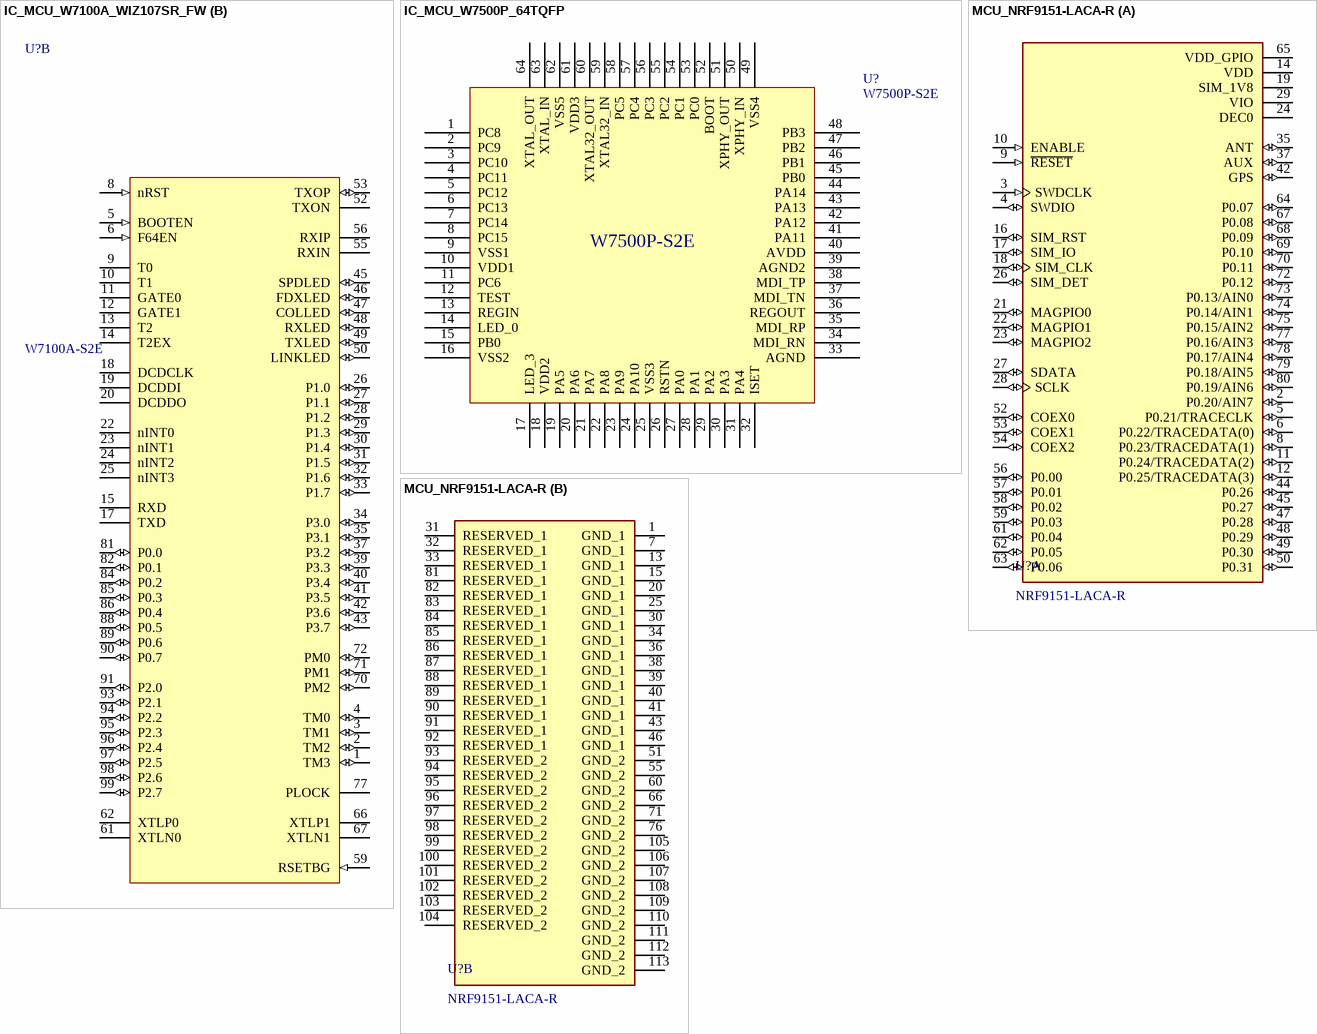
[diagram p11: symbols IC_MCU_W7100A_WIZ107SR_FW to MCU_NRF9151-LACA-R]

## IC_MCU_W7100A_WIZ107SR_FW
designator U?, comment W7100A-S2E
W7100A-100LQFP + WIZ107SR FIRMWA; Manufacturer: WIZnet; Manufacturer Part Number: W7100A-S2E-100; Supplier 1: Digi-Key; Supplier Part Number 1: 1278-1032-ND; Reel Stock: N/A; Last modified by: J.Jaramillo; Last modified date: 20240310; ComponentLink1Description: Digi-Key; ComponentLink1URL: https://www.digikey.com/en/products/detail/wiznet/W7100A-S2E-100/8789608?s=N4IgTCBcDaIIxgOwA4C0cAMBmMqByAIiALoC%2BQA
footprint LQFP_100_14x14mm (100-LQFP / 20190221 / H-D.Garcia)
part A pins: 7 GND_1 (power), 16 VCC1V8D_1 (power), 21 VCC3V3D_1 (power), 36 GND_2 (power), 38 VCC3V3D_2 (power), 44 VCC1V8D_2 (power), 51 GNDA_1 (power), 54 VCC1V8A_1 (power), 57 GNDA_2 (power), 58 VCC3V3A_1 (power), 60 VCC1V8A_2 (power), 63 GNDA_3 (power), 64 VCC1V8A_3 (power), 65 GNDA_4 (power), 68 VCC1V8D_3 (power), 69 GND_4 (power), 73 VCC3V3D_3 (power), 74 1V8_OUT (power), 75 VCC3V3A_2 (power), 76 GNDA_5 (power), 78 NC_1, 79 NC_2, 80 NC_3, 83 VCC1V8D_4 (power), 87 VCC3V3D_4 (power), 92 GND_3 (power), 100 VCC3V3D_5 (power)
part B pins: 1 TM3 (io), 2 TM2 (io), 3 TM1 (io), 4 TM0 (io), 5 BOOTEN (in), 6 F64EN (in), 8 nRST (in), 9 T0 (power), 10 T1 (power), 11 GATE0 (power), 12 GATE1 (power), 13 T2, 14 T2EX, 15 RXD, 17 TXD, 18 DCDCLK (power), 19 DCDDI (power), 20 DCDDO (power), 22 nINT0 (power), 23 nINT1 (power), 24 nINT2 (power), 25 nINT3 (power), 26 P1.0 (io), 27 P1.1 (io), 28 P1.2 (io), 29 P1.3 (io), 30 P1.4 (io), 31 P1.5 (io), 32 P1.6 (io), 33 P1.7 (io), 34 P3.0 (io), 35 P3.1 (io), 37 P3.2 (io), 39 P3.3 (io), 40 P3.4 (io), 41 P3.5 (io), 42 P3.6 (io), 43 P3.7 (io), 45 SPDLED (io), 46 FDXLED (io), 47 COLLED (io), 48 RXLED (io), 49 TXLED (io), 50 LINKLED (io), 52 TXON, 53 TXOP (io), 55 RXIN, 56 RXIP, 59 RSETBG (in), 61 XTLN0, 62 XTLP0, 66 XTLP1, 67 XTLN1, 70 PM2 (io), 71 PM1 (io), 72 PM0 (io), 77 PLOCK, 81 P0.0 (io), 82 P0.1 (io), 84 P0.2 (io), 85 P0.3 (io), 86 P0.4 (io), 88 P0.5 (io), 89 P0.6 (io), 90 P0.7 (io), 91 P2.0 (io), 93 P2.1 (io), 94 P2.2 (io), 95 P2.3 (io), 96 P2.4 (io), 97 P2.5 (io), 98 P2.6 (io), 99 P2.7 (io)

## IC_MCU_W7500P_64TQFP
designator U?, comment W7500P-S2E
IC MCU 32BIT 128KB FLASH 64TQFP; Manufacturer: WIZnet; Manufacturer Part Number: W7500P-S2E; Supplier 1: Digi-Key; Supplier Part Number 1: 1278-1034-ND; Reel Stock: N/A; Last modified by: J.Jaramillo; Last modified date: 20240310; ComponentLink2Description: Digi-Key; ComponentLink2URL: https://www.digikey.com/en/products/detail/wiznet/W7500P-S2E/8789610?s=N4IgTCBcDaIOoHYCsAGFAFAtAZTAURAF0BfIA
footprint TQFP_64_7X7MM (/20220212/J-E.Pachon)
pins: 1 PC8, 2 PC9, 3 PC10, 4 PC11, 5 PC12, 6 PC13, 7 PC14, 8 PC15, 9 VSS1, 10 VDD1, 11 PC6, 12 TEST, 13 REGIN, 14 LED_0, 15 PB0, 16 VSS2, 17 LED_3, 18 VDD2, 19 PA5, 20 PA6, 21 PA7, 22 PA8, 23 PA9, 24 PA10, 25 VSS3, 26 RSTN, 27 PA0, 28 PA1, 29 PA2, 30 PA3, 31 PA4, 32 ISET, 33 AGND, 34 MDI_RN, 35 MDI_RP, 36 REGOUT, 37 MDI_TN, 38 MDI_TP, 39 AGND2, 40 AVDD, 41 PA11, 42 PA12, 43 PA13, 44 PA14, 45 PB0, 46 PB1, 47 PB2, 48 PB3, 49 VSS4, 50 XPHY_IN, 51 XPHY_OUT, 52 BOOT, 53 PC0, 54 PC1, 55 PC2, 56 PC3, 57 PC4, 58 PC5, 59 XTAL32_IN, 60 XTAL32_OUT, 61 VDD3, 62 VSS5, 63 XTAL_IN, 64 XTAL_OUT

## MCU_NRF9151-LACA-R
designator U?, comment NRF9151-LACA-R
IC RF TXRX + MCU CELL; Manufacturer: Nordic Semiconductor ASA; Manufacturer Part Number: NRF9151-LACA-R; Supplier 1: Digi-Key; Supplier Part Number 1: 4823-NRF9151-LACA-RCT-ND; Reel Stock: N/A; Last modified by: J.Jaramillo; Last modified date: 230526; ComponentLink1Description: Digi-Key; ComponentLink1URL: https://www.digikey.com/en/products/detail/nordic-semiconductor-asa/NRF9151-LACA-R/24713452; ComponentLink2Description: Datasheet; ComponentLink2URL: https://www.nordicsemi.com/-/media/Software-and-other-downloads/Product-Briefs/nRF9151-SiP-PB-v1.2.pdf
footprint NRF9151-NS (/170526 / J.Jaramillo)
part A pins: 2 P0.20/AIN7 (io), 3 SWDCLK (in), 4 SWDIO (io), 5 P0.21/TRACECLK (io), 6 P0.22/TRACEDATA(0) (io), 8 P0.23/TRACEDATA(1) (io), 9 ~{RESET} (in), 10 ENABLE (in), 11 P0.24/TRACEDATA(2) (io), 12 P0.25/TRACEDATA(3) (io), 14 VDD (power), 16 SIM_RST (io), 17 SIM_IO (io), 18 SIM_CLK (io), 19 SIM_1V8 (power), 21 MAGPIO0 (io), 22 MAGPIO1 (io), 23 MAGPIO2 (io), 24 DEC0 (power), 26 SIM_DET (io), 27 SDATA (io), 28 SCLK (io), 29 VIO (power), 35 ANT (io), 37 AUX (io), 42 GPS (io), 44 P0.26 (io), 45 P0.27 (io), 47 P0.28 (io), 48 P0.29 (io), 49 P0.30 (io), 50 P0.31 (io), 52 COEX0 (io), 53 COEX1 (io), 54 COEX2 (io), 56 P0.00 (io), 57 P0.01 (io), 58 P0.02 (io), 59 P0.03 (io), 61 P0.04 (io), 62 P0.05 (io), 63 P0.06 (io), 64 P0.07 (io), 65 VDD_GPIO (power), 67 P0.08 (io), 68 P0.09 (io), 69 P0.10 (io), 70 P0.11 (io), 72 P0.12 (io), 73 P0.13/AIN0 (io), 74 P0.14/AIN1 (io), 75 P0.15/AIN2 (io), 77 P0.16/AIN3 (io), 78 P0.17/AIN4 (io), 79 P0.18/AIN5 (io), 80 P0.19/AIN6 (io)
part B pins: 1 GND_1 (power), 7 GND_1 (power), 13 GND_1 (power), 15 GND_1 (power), 20 GND_1 (power), 25 GND_1 (power), 30 GND_1 (power), 31 RESERVED_1, 32 RESERVED_1, 33 RESERVED_1, 34 GND_1 (power), 36 GND_1 (power), 38 GND_1 (power), 39 GND_1 (power), 40 GND_1 (power), 41 GND_1 (power), 43 GND_1 (power), 46 GND_1 (power), 51 GND_2 (power), 55 GND_2 (power), 60 GND_2 (power), 66 GND_2 (power), 71 GND_2 (power), 76 GND_2 (power), 81 RESERVED_1, 82 RESERVED_1, 83 RESERVED_1, 84 RESERVED_1, 85 RESERVED_1, 86 RESERVED_1, 87 RESERVED_1, 88 RESERVED_1, 89 RESERVED_1, 90 RESERVED_1, 91 RESERVED_1, 92 RESERVED_1, 93 RESERVED_2, 94 RESERVED_2, 95 RESERVED_2, 96 RESERVED_2, 97 RESERVED_2, 98 RESERVED_2, 99 RESERVED_2, 100 RESERVED_2, 101 RESERVED_2, 102 RESERVED_2, 103 RESERVED_2, 104 RESERVED_2, 105 GND_2 (power), 106 GND_2 (power), 107 GND_2 (power), 108 GND_2 (power), 109 GND_2 (power), 110 GND_2 (power), 111 GND_2 (power), 112 GND_2 (power), 113 GND_2 (power)